# Altium footprint library QFP.PcbLib: 1 footprints
Each footprint in its own frame and in the unit in brackets; x right, y up, seen from the top. Pads: shape width x height; smd on the part's side, far side on the other; paste and mask are expansions set on the pad; w line width, h text height; cw(c..) or ccw(c..) is an arc to the next point about the centre after c.
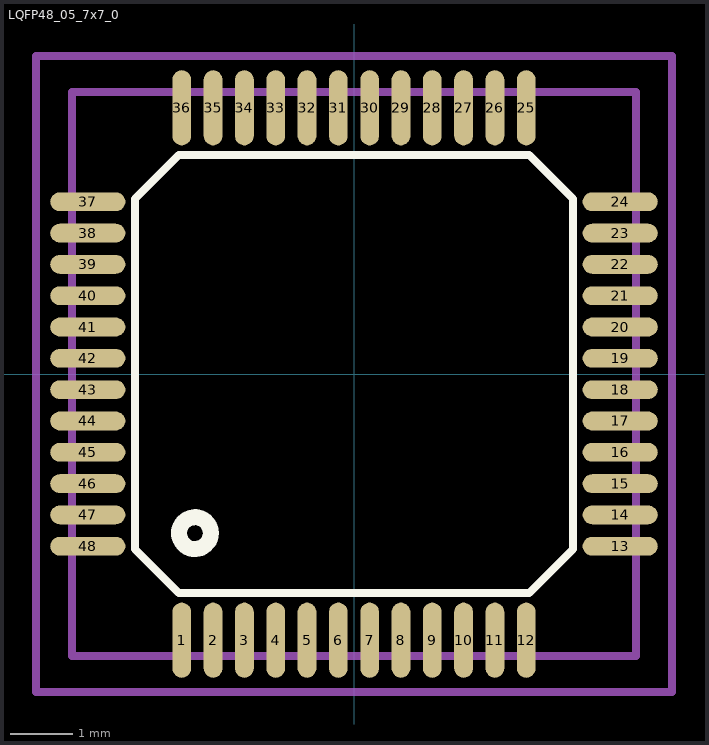
[diagram p0: the footprint, top view; thin cyan lines are the x and y axes]

## LQFP48_05_7x7_0 [mm]
pads (48):
  oval 0.3x1.2 smd mask+0.051: 1(-2.75,-4.25) 2(-2.25,-4.25) 3(-1.75,-4.25) 4(-1.25,-4.25) 5(-0.75,-4.25) 6(-0.25,-4.25) 7(0.25,-4.25) 8(0.75,-4.25) 9(1.25,-4.25) 10(1.75,-4.25) 11(2.25,-4.25) 12(2.75,-4.25) 25(2.75,4.25) 26(2.25,4.25) 27(1.75,4.25) 28(1.25,4.25) 29(0.75,4.25) 30(0.25,4.25) 31(-0.25,4.25) 32(-0.75,4.25) 33(-1.25,4.25) 34(-1.75,4.25) 35(-2.25,4.25) 36(-2.75,4.25)
  oval 1.2x0.3 smd mask+0.051: 13(4.25,-2.75) 14(4.25,-2.25) 15(4.25,-1.75) 16(4.25,-1.25) 17(4.25,-0.75) 18(4.25,-0.25) 19(4.25,0.25) 20(4.25,0.75) 21(4.25,1.25) 22(4.25,1.75) 23(4.25,2.25) 24(4.25,2.75) 37(-4.25,2.75) 38(-4.25,2.25) 39(-4.25,1.75) 40(-4.25,1.25) 41(-4.25,0.75) 42(-4.25,0.25) 43(-4.25,-0.25) 44(-4.25,-0.75) 45(-4.25,-1.25) 46(-4.25,-1.75) 47(-4.25,-2.25) 48(-4.25,-2.75)
Top Overlay:
  circle w0.254: c-2.54,-2.54 r0.254
  lines w0.127: -3.5,-2.794 -2.794,-3.5 ; -3.5,-2.794 -2.794,-3.5 ; -3.5,-2.794 -3.5,0 -3.5,2.794 ; -3.5,2.794 -2.794,3.5 ; -3.5,2.794 -2.794,3.5 ; -2.794,-3.5 0,-3.5 2.794,-3.5 ; -2.794,3.5 0,3.5 2.794,3.5 ; 2.794,-3.5 3.5,-2.794 ; 2.794,-3.5 3.5,-2.794 ; 2.794,3.5 3.5,2.794 ; 2.794,3.5 3.5,2.794 ; 3.5,-2.794 3.5,0 3.5,2.794
Mechanical 1:
  lines w0.127: -4.5,-4.5 -4.5,4.5 4.5,4.5 4.5,-4.5 -4.5,-4.5
Mechanical 15:
  lines w0.127: 5.08,2.54 5.08,5.08 -5.08,5.08 -5.08,-5.08 5.08,-5.08 5.08,3.175
3D body "User Library-LQFP48_Grid_0_5.STEP": height 1.6, standoff 0, extent -4.5,-4.5 4.5,4.5